# Altium integrated library buzzer.IntLib: 1 symbol
Pins are listed as number, name and electrical type; pins without a type are passive.

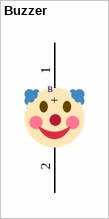
[diagram p0: symbol Buzzer]

## Buzzer
designator B, comment clown  (value not drawn)
footprint Buzzer
pins: 1 +, 2 -